# Altium footprint library VQFN-20(4.5X3.5).PcbLib: 1 footprints
Each footprint in its own frame and in the unit in brackets; x right, y up, seen from the top. Pads: shape width x height; smd on the part's side, far side on the other; paste and mask are expansions set on the pad; w line width, h text height; cw(c..) or ccw(c..) is an arc to the next point about the centre after c.
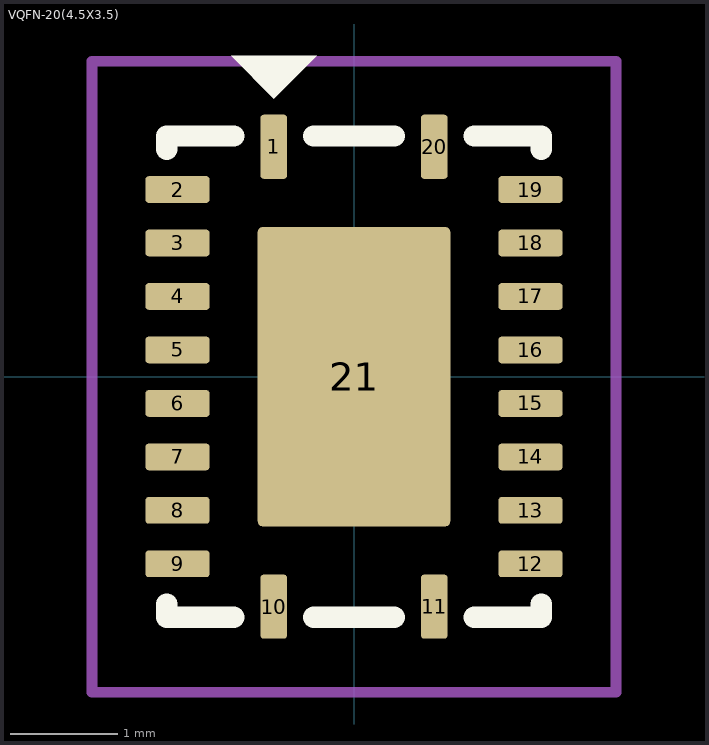
[diagram p0: the footprint, top view; thin cyan lines are the x and y axes]

## VQFN-20(4.5X3.5) [mm]
pads (21):
  rrect25% 0.25x0.6 smd: 1(-0.75,2.15) 10(-0.75,-2.15) 11(0.75,-2.15) 20(0.75,2.15)
  rrect25% 0.6x0.25 smd: 2(-1.65,1.75) 3(-1.65,1.25) 4(-1.65,0.75) 5(-1.65,0.25) 6(-1.65,-0.25) 7(-1.65,-0.75) 8(-1.65,-1.25) 9(-1.65,-1.75) 12(1.65,-1.75) 13(1.65,-1.25) 14(1.65,-0.75) 15(1.65,-0.25) 16(1.65,0.25) 17(1.65,0.75) 18(1.65,1.25) 19(1.65,1.75)
  rrect5% 1.8x2.8 smd paste-0.9: 21(0,0)
Top Overlay:
  region: -1.15,3 -0.35,3 -0.75,2.6
  lines w0.2: -1.75,-2.125 -1.75,-2.25 -1.125,-2.25 ; -1.75,2.125 -1.75,2.25 -1.125,2.25 ; -0.375,-2.25 0.375,-2.25 ; -0.375,2.25 0.375,2.25 ; 1.125,-2.25 1.75,-2.25 1.75,-2.125 ; 1.125,2.25 1.75,2.25 1.75,2.125
Top Paste:
  region: 0.85,-0.1 0.1,-0.1 0.1,-1.35 0.85,-1.35
  rectangle: -0.85,-1.35 -0.1,-0.1
  rectangle: -0.85,0.1 -0.1,1.35
  region: 0.85,1.35 0.1,1.35 0.1,0.1 0.85,0.1
Top Solder:
  drawing of 20 lines, arcs and shapes, not listed
Top Courtyard:
  lines w0.1: -2.45,-2.95 2.45,-2.95 2.45,2.95 -2.45,2.95 -2.45,-2.95
3D body "step_temp.STEP": height 1, standoff 0, extent -1.75,-2.25 1.75,2.25